# Altium footprint library samtec-mtmm.PcbLib: 2 footprints
Each footprint in its own frame and in the unit in brackets; x right, y up, seen from the top. Pads: shape width x height; smd on the part's side, far side on the other; paste and mask are expansions set on the pad; w line width, h text height; cw(c..) or ccw(c..) is an arc to the next point about the centre after c.
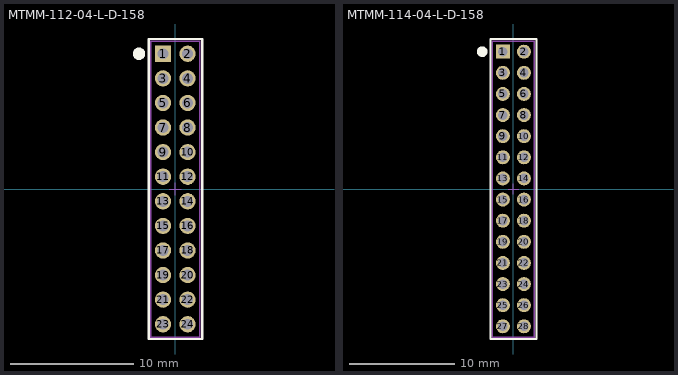
[diagram p0: the footprints below, top view; thin cyan lines are the x and y axes]

## MTMM-112-04-L-D-158 [mil] "2.0mm  SQ  POST HEADER 2x12"
height 216.54
pads (24):
  rect 52x52 hole 35: 1(-39.37,433.07)
  round 52 hole 35: 2(39.37,433.07) 3(-39.37,354.33) 4(39.37,354.33) 5(-39.37,275.59) 6(39.37,275.59) 7(-39.37,196.85) 8(39.37,196.85) 9(-39.37,118.11) 10(39.37,118.11) 11(-39.37,39.37) 12(39.37,39.37) 13(-39.37,-39.37) 14(39.37,-39.37) 15(-39.37,-118.11) 16(39.37,-118.11) 17(-39.37,-196.85) 18(39.37,-196.85) 19(-39.37,-275.59) 20(39.37,-275.59) 21(-39.37,-354.33) 22(39.37,-354.33) 23(-39.37,-433.07) 24(39.37,-433.07)
Top Overlay:
  circle w19.68: c-116.14,433.07 r9.84
  lines w7.87: -85.63,-480.31 -85.63,480.31 85.63,480.31 85.63,-480.31 -85.63,-480.31
Mechanical 13:
  lines w3.94: -19.68,0 19.69,0 ; 0,-19.68 0,19.68 ; -77.76,-472.44 77.76,-472.44 77.76,472.44 -77.76,472.44 -77.76,-472.44
Mechanical 15:
  lines w3.94: -79.72,-474.41 79.72,-474.41 79.72,474.41 -79.72,474.41 -79.72,-474.41
  text ".Designator" at 0,-78.74 h19.68
3D body: height 217, standoff -106, extent -77.5,-472.44 77.5,472.44

## MTMM-114-04-L-D-158 [mil] "2.0mm  SQ  POST HEADER 2x14"
height 216.54
pads (28):
  rect 52x52 hole 35: 1(-39.37,511.81)
  round 52 hole 35: 2(39.37,511.81) 3(-39.37,433.07) 4(39.37,433.07) 5(-39.37,354.33) 6(39.37,354.33) 7(-39.37,275.59) 8(39.37,275.59) 9(-39.37,196.85) 10(39.37,196.85) 11(-39.37,118.11) 12(39.37,118.11) 13(-39.37,39.37) 14(39.37,39.37) 15(-39.37,-39.37) 16(39.37,-39.37) 17(-39.37,-118.11) 18(39.37,-118.11) 19(-39.37,-196.85) 20(39.37,-196.85) 21(-39.37,-275.59) 22(39.37,-275.59) 23(-39.37,-354.33) 24(39.37,-354.33) 25(-39.37,-433.07) 26(39.37,-433.07) 27(-39.37,-511.81) 28(39.37,-511.81)
Top Overlay:
  circle w19.68: c-116.14,511.81 r9.84
  lines w7.87: -85.63,-559.06 85.63,-559.06 85.63,559.06 -85.63,559.06 -85.63,-559.06
Mechanical 13:
  lines w3.94: -19.68,0 19.69,0 ; 0,-19.68 0,19.68 ; -77.76,-551.18 -77.76,551.18 77.76,551.18 77.76,-551.18 -77.76,-551.18
Mechanical 15:
  lines w3.94: -79.72,-553.15 -79.72,553.15 79.72,553.15 79.72,-553.15 -79.72,-553.15
  text ".Designator" at 0,-78.74 h19.68
3D body: height 217, standoff -106, extent -77.5,-551.18 77.5,551.18